# Altium integrated library TLV3201AIDBVR.IntLib: 1 symbol
Pins are listed as number, name and electrical type; pins without a type are passive.

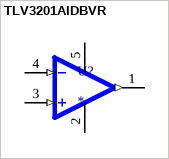
[diagram p0: symbol TLV3201AIDBVR]

## TLV3201AIDBVR
designator U?
Single high speed, low power comparator 5-SOT-23 -40 to 125; MP: TLV3201AIDBVR; Availability: Unavailable; Value: *; Package: None; Price: None
footprint SOT95P280X145-5N
pins: 1 OUT (out), 2 GND (power), 3 IN+ (in), 4 IN- (in), 5 VCC (power)